# Altium schematic symbol library Schematic_Crystals.SchLib: 3 symbols
Pins are listed as number, name and electrical type; pins without a type are passive.

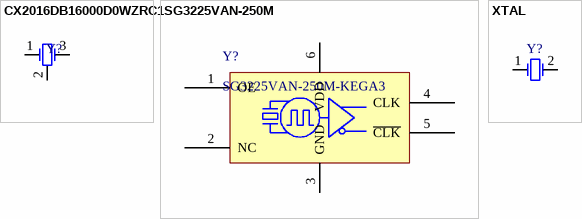
[diagram p0: symbols CX2016DB16000D0WZRC1 to XTAL]

## CX2016DB16000D0WZRC1
designator Y?
Crystal Oscillator; Published: 8-Jun-2000; LatestRevisionDate: 17-Jul-2002; LatestRevisionNote: Re-released for DXP Platform.; PackageReference: R38; Publisher: Altium Limited; PackageDescription: Crystal, Thru-Hole; 2 Leads; Body 3.1 x 8.2 mm (Dia.xH); Supplier 1: Digi-Key; Supplier Part Number 1: 1253-1585-1-ND
simulation model XTAL (Spice Subcircuit)
footprint CX2016DB16000D0WZRC1 (16MHz 2x1.6)
pins: 1 OSC1, 2 GND, 3 OSC2

## SG3225VAN-250M
designator Y?, comment SG3225VAN-250M-KEGA3
XTAL OSC XO 250.0000MHZ LVDS SMD; Manufacturer 1: Epson; Manufacturer Part Number 1: SG3225VAN250.000000M-KEGA3; Frequency: 250MHz; Max Supply Current: 30mA; Frequency Stability: 30ppm; Supplier 1: Digi-Key; Stock 1: 534; Pricing 1: 1=2.29000, 10=2.24100, 50=2.13400, 100=1.86730 (USD); RoHS: Yes; Mount: Surface Mount; Case/Package: SMD/SMT; Min Operating Temperature: -40°C; Max Operating Temperature: 85°C; Packaging: Tape and Reel; Length: 0.126inch; Height: 0.047inch; Width: 0.098inch; ComponentLink1URL: http://www.mouser.com/ds/2/137/G3225EAN_en-961615.pdf?src-supplier=Mouser; ComponentLink1Description: http://www.mouser.com/ds/2/137/G3225EAN_en-961615.pdf?src-supplier=Mouser; ComponentLink2URL: https://support.epson.biz/td/api/doc_check.php?dl=brief_SG3225EAN_en.pdf&src-supplier=Digi-Key; ComponentLink2Description: https://support.epson.biz/td/api/doc_check.php?dl=brief_SG3225EAN_en.pdf&src-supplier=Digi-Key; ComponentLink3URL: https://www5.epsondevice.com/en/information/support/pdf/june_2018_psc_masterbook.pdf?src-supplier=Digi-Key; ComponentLink3Description: https://www5.epsondevice.com/en/information/support/pdf/june_2018_psc_masterbook.pdf?src-supplier=Digi-Key
pins: 1 OE, 2 NC, 3 GND, 4 CLK, 5 ~{CLK}, 6 VDD

## XTAL
designator Y?
Crystal Oscillator; Published: 8-Jun-2000; LatestRevisionDate: 17-Jul-2002; LatestRevisionNote: Re-released for DXP Platform.; PackageReference: R38; Publisher: Altium Limited; PackageDescription: Crystal, Thru-Hole; 2 Leads; Body 3.1 x 8.2 mm (Dia.xH)
footprint R38 (Crystal, Thru-Hole; 2 Leads; Body 3.1 x 8.2 mm (Dia.xH))
simulation model XTAL (Spice Subcircuit)
pins: 1 OSC1, 2 OSC2